# EAGLE library part DP4T-ROTARY-1 (library spietz-library-2)
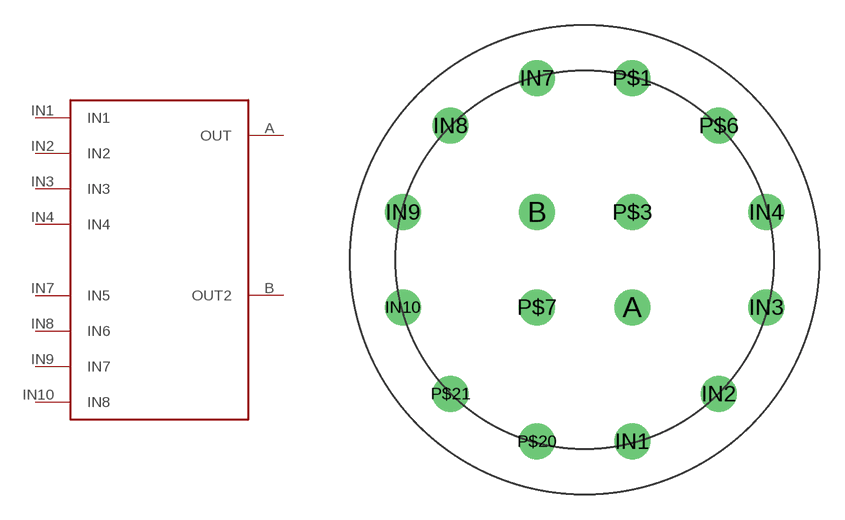
[diagram p5: symbol with the pads of DP4T-ROTARY-1; footprint DP4T-ROTARY-1]

Designator prefix -

## DP4T-ROTARY-1  [DP4T-ROTARY-1]
A  OUT
B  OUT2
IN1  IN1
IN2  IN2
IN3  IN3
IN4  IN4
IN7  IN5
IN8  IN6
IN9  IN7
IN10  IN8

## Footprint DP4T-ROTARY-1 (pad centres in mm)
drill 1.4: A 2.794,-2.794; B -2.794,2.794; IN1 2.794,-10.668; IN2 7.874,-7.874; IN3 10.668,-2.794; IN4 10.668,2.794; IN7 -2.794,10.668; IN8 -7.874,7.874; IN9 -10.668,2.794; IN10 -10.668,-2.794; P$1 2.794,10.668; P$3 2.794,2.794; P$6 7.874,7.874; P$7 -2.794,-2.794; P$20 -2.794,-10.668; P$21 -7.874,-7.874